# Altium footprint library HDC2022.PcbLib: 21 footprints (part 2 of 2)
Each footprint in its own frame and in the unit in brackets; x right, y up, seen from the top. Pads: shape width x height; smd on the part's side, far side on the other; paste and mask are expansions set on the pad; w line width, h text height; cw(c..) or ccw(c..) is an arc to the next point about the centre after c.
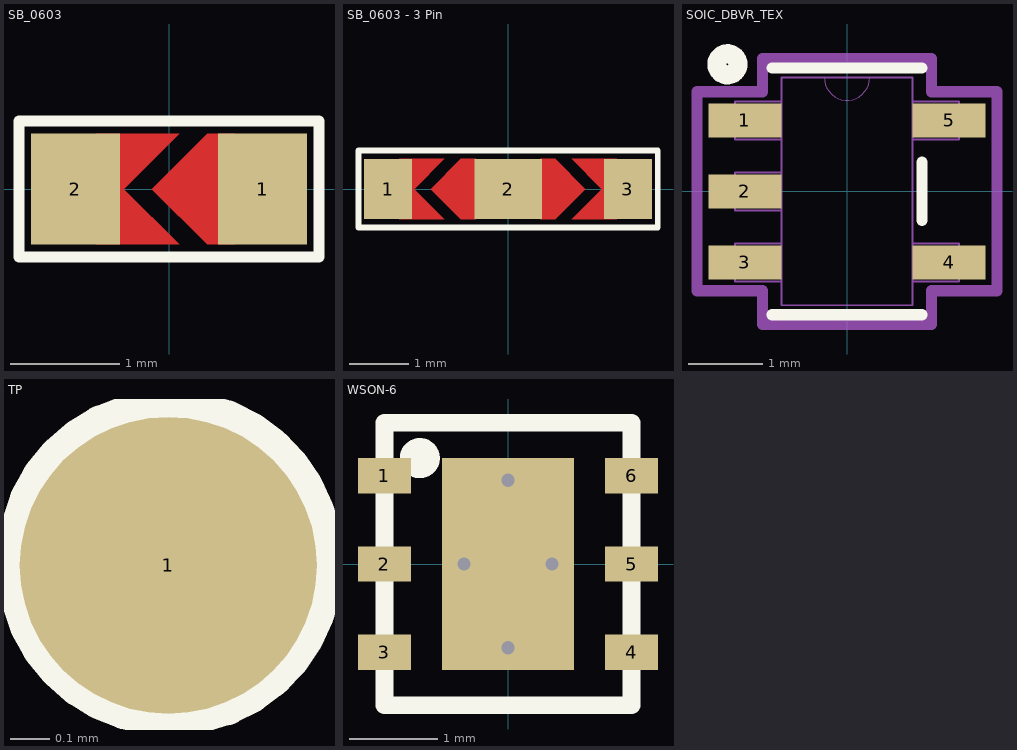
[diagram p1: the footprints below, top view; thin cyan lines are the x and y axes]

## SB_0603 [mil] "Jumper"
pads (2):
  rect 32x40 smd mask+1.77: 1(33.75,0) 2(-33.75,0)
Top Layer:
  region: -26.25,0 -16.25,0 3.75,-20 -26.25,-20
  region: -26.25,0 -16.25,0 3.75,20 -26.25,20
  region: 23.75,20 13.75,20 -6.25,0 13.75,-20 23.75,-20
Top Overlay:
  lines w3.94: -54.13,-24.61 54.13,-24.61 54.13,24.61 -54.13,24.61 -54.13,-23.62
Top Paste:
  region: -26.25,0 -16.25,0 3.75,-20 -26.25,-20
  region: -26.25,0 -16.25,0 3.75,20 -26.25,20
  region: 23.75,20 13.75,20 -6.25,0 13.75,-20 23.75,-20
Top Solder:
  region: 23.75,21.65 14.77,21.66 -6.89,0 14.76,-21.65 23.75,-21.65
  region: -26.25,0 -15.75,0 5.91,-21.65 -26.25,-21.65
  region: -26.25,0 -15.75,0 5.91,21.66 -26.25,21.65

## SB_0603 - 3 Pin [mil] "Jumper"
pads (3):
  rect 32x40 smd mask+1.77: 1(-79.72,0) 3(79.72,0)
  rect 45x40 smd mask+1.77: 2(0.14,0)
Top Layer:
  region: -21.38,20 -31.38,20 -51.38,0 -31.38,-20 -21.38,-20
  region: 21.38,-20 31.38,-20 51.38,0 31.38,20 21.38,20
  region: 72.22,0 62.22,0 42.22,-20 72.22,-20
  region: 72.22,0 62.22,0 42.22,20 72.22,20
  region: -72.22,0 -62.22,0 -42.22,20 -72.22,20
  region: -72.22,0 -62.22,0 -42.22,-20 -72.22,-20
Top Overlay:
  lines w3.94: -99.27,-25.59 -99.27,25.59 99.55,25.59 99.55,-25.59 -99.27,-25.59
Top Paste:
  region: -21.38,20 -31.38,20 -51.38,0 -31.38,-20 -21.38,-20
  region: 21.38,-20 31.38,-20 51.38,0 31.38,20 21.38,20
  region: 72.22,0 62.22,0 42.22,-20 72.22,-20
  region: 72.22,0 62.22,0 42.22,20 72.22,20
  region: -72.22,0 -62.22,0 -42.22,20 -72.22,20
  region: -72.22,0 -62.22,0 -42.22,-20 -72.22,-20
Top Solder:
  region: -21.38,21.65 -30.37,21.66 -52.02,0 -30.37,-21.65 -21.38,-21.65
  region: 21.38,-21.65 30.37,-21.66 52.02,0 30.37,21.65 21.38,21.65
  region: 72.22,0 61.72,0 40.07,-21.66 72.22,-21.65
  region: 72.22,0 61.72,0 40.07,21.65 72.22,21.65
  region: -72.22,0 -61.72,0 -40.07,21.66 -72.22,21.65
  region: -72.22,0 -61.72,0 -40.07,-21.65 -72.22,-21.65

## SOIC_DBVR_TEX [mil]
pads (5):
  rect 38.5x18 smd paste+0 mask+0: 1(-53.75,37.4) 2(-53.75,0) 3(-53.75,-37.4) 4(53.75,-37.4) 5(53.75,37.4)
Top Overlay:
  circle w10: c-62.99,66.93 r5.57
  lines w6: -39.5,-65 39.5,-65 ; -39.5,65 39.5,65 ; 39.5,-15.3 39.5,15.3
Mechanical 13:
  lines w0: -12,60 ccw(c0,60) 12,60
  lines w1: -59,-47.4 -34.5,-47.4 -34.5,-27.4 -59,-27.4 -59,-47.4 ; -59,-10 -34.5,-10 -34.5,10 -59,10 -59,-10 ; -59,27.4 -34.5,27.4 -34.5,47.4 -59,47.4 -59,27.4 ; -34.5,-60 -34.5,60 34.5,60 34.5,-60 -34.5,-60 ; 34.5,-47.4 59,-47.4 59,-27.4 34.5,-27.4 34.5,-47.4 ; 34.5,27.4 59,27.4 59,47.4 34.5,47.4 34.5,27.4
  text "*" at -37,7.4 h50
Mechanical 15:
  lines w6: -79,-52.4 -79,52.4 -44.5,52.4 -44.5,70 44.5,70 44.5,52.4 79,52.4 79,-52.4 44.5,-52.4 44.5,-70 -44.5,-70 -44.5,-52.4 -79,-52.4
3D body: height 10, standoff 0, extent 0,0 10,10
3D body "SOIC_DBVR_TEX.step": height 57.09, standoff 0, extent -59.01,-59.99 59.02,60.01

## TP [mil]
pads (1):
  round 30 smd mask+1.97: 1(0,0)
Top Overlay:
  circle w5: c0.13,0.28 r15

## WSON-6 [mm]
pads (11):
  rect 0.6x0.4 smd: 1(-1.4,1) 2(-1.4,0) 3(-1.4,-1) 4(1.4,-1) 5(1.4,0) 6(1.4,1)
  round 0.2 hole 0.15: ""(-0.5,0) ""(0,-0.95) ""(0,0.95) ""(0.5,0)
  rect 1.5x2.4 smd: ""(0,0)
Top Overlay:
  circle w0.254: c-1,1.2 r0.1
  lines w0.2: -1.4,-1.6 -1.4,1.6 1.4,1.6 1.4,-1.6 -1.4,-1.6
3D body "User Library-WSON-6.step": height 0.75, standoff 0, extent -1.52,-1.5 1.5,1.5